# Altium footprint library КОТ-С.PcbLib: 65 footprints (part 3 of 5)
Each footprint in its own frame and in the unit in brackets; x right, y up, seen from the top. Pads: shape width x height; smd on the part's side, far side on the other; paste and mask are expansions set on the pad; w line width, h text height; cw(c..) or ccw(c..) is an arc to the next point about the centre after c.
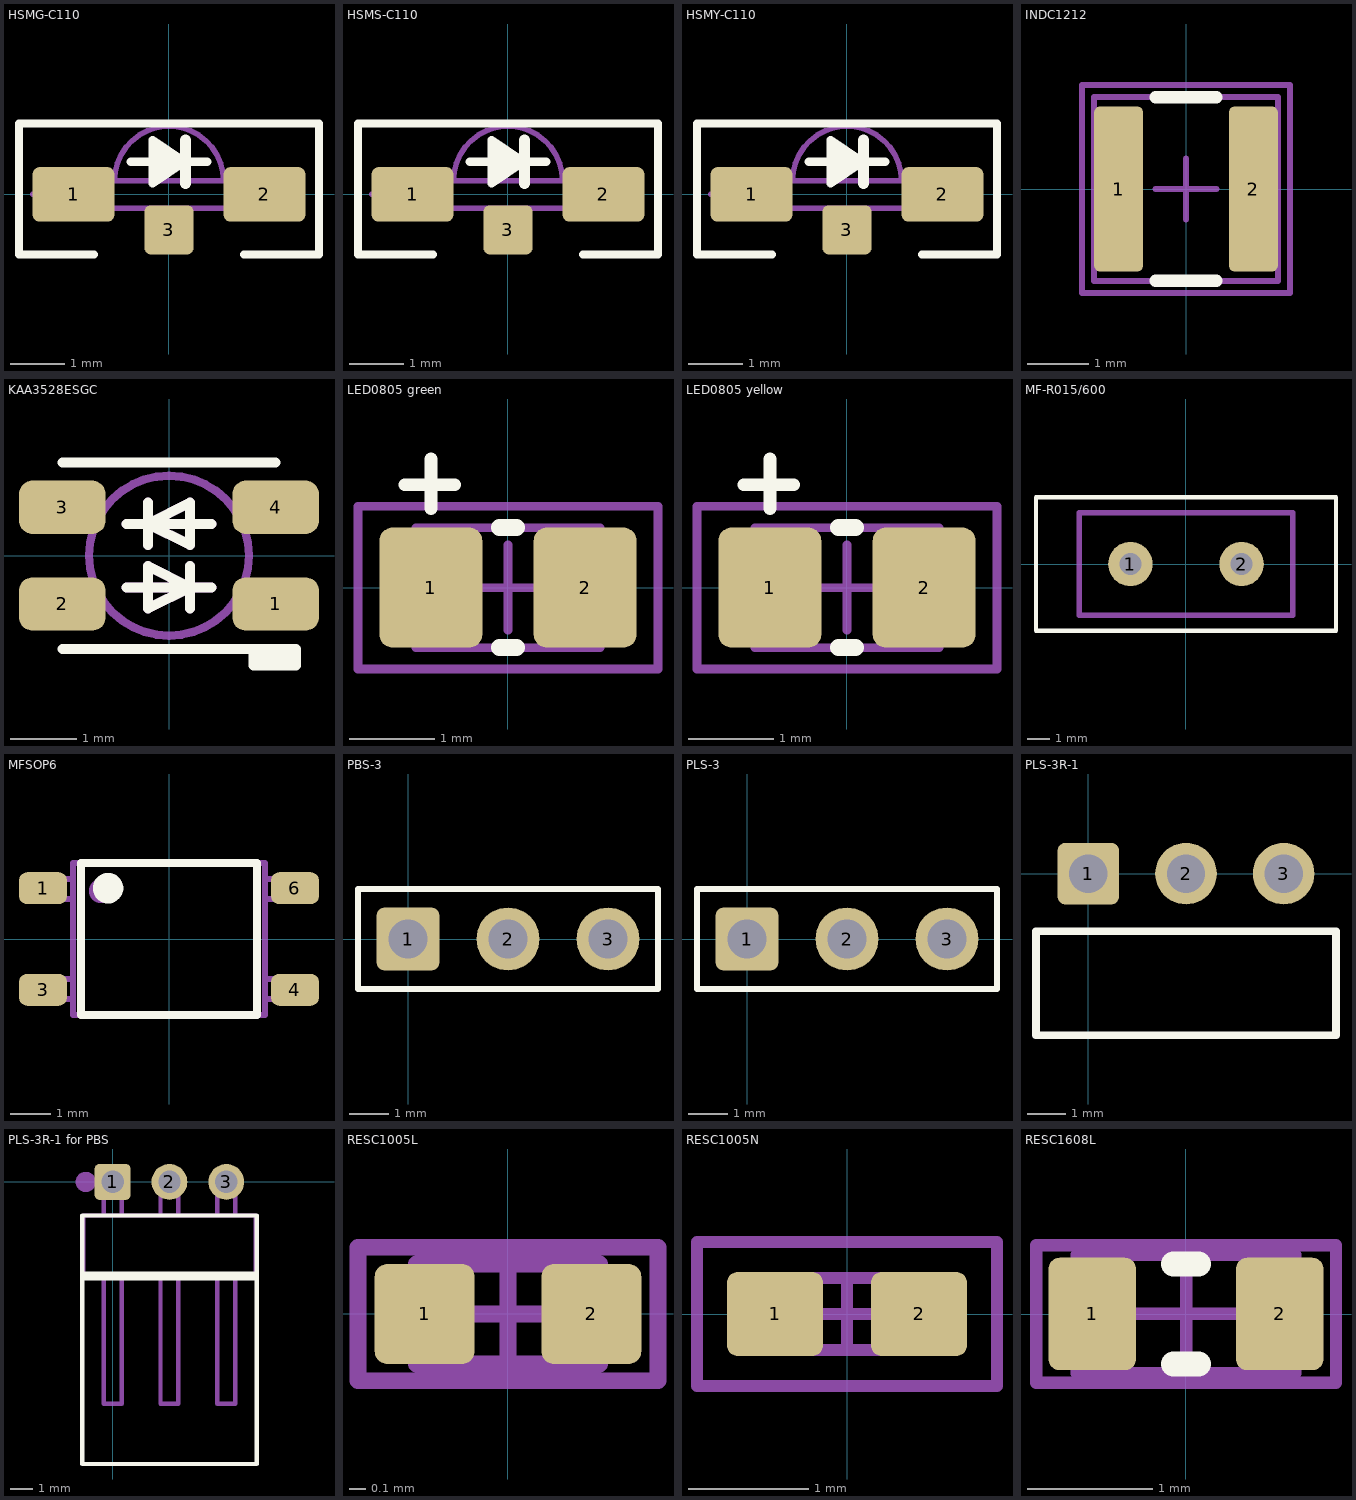
[diagram p2: the footprints below, top view; thin cyan lines are the x and y axes]

## HSMG-C110 [mm]
height 1
pads (3):
  rrect25% 1.5x1 smd paste-0.025: 1(-1.75,0) 2(1.75,0)
  rrect25% 0.9x0.9 smd paste-0.025 mask+0.07: 3(0,-0.65)
Top Overlay:
  region: -0.3,1 -0.3,0.2 0.3,0.6
  lines w0.15: -1.375,-1.1 -2.75,-1.1 -2.75,1.3 2.75,1.3 2.75,-1.1 1.375,-1.1 ; -0.7,0.6 0.7,0.6 ; -0.3,0.2 0.3,0.6 -0.3,1 -0.3,0.2
  lines w0.2: 0.3,0.2 0.3,1
Mechanical 5:
  lines w0.1: -2.5,0 -1.9,0 ; -2.2,-0.3 -2.2,0.3 ; -1,0.25 cw(c0,0.25) 1,0.25 ; -1.6,-0.25 1.6,-0.25 1.6,0.25 -1.6,0.25 -1.6,-0.25
  text ".Designator" at -1.6,-1 h1
3D body: height 1, standoff 0, extent -1.6,-0.25 1.6,0.25
3D body: height 0.8, standoff 0.2, extent -1,0.25 1,1.25

## HSMS-C110 [mm]
height 1
pads (3):
  rrect25% 1.5x1 smd paste-0.025: 1(-1.75,0) 2(1.75,0)
  rrect25% 0.9x0.9 smd paste-0.025 mask+0.07: 3(0,-0.65)
Top Overlay:
  region: -0.3,1 -0.3,0.2 0.3,0.6
  lines w0.15: -1.375,-1.1 -2.75,-1.1 -2.75,1.3 2.75,1.3 2.75,-1.1 1.375,-1.1 ; -0.7,0.6 0.7,0.6 ; -0.3,0.2 -0.3,1 0.3,0.6 -0.3,0.2
  lines w0.2: 0.3,0.2 0.3,1
Mechanical 1:
  lines w0.1: -1,0.25 cw(c0,0.25) 1,0.25 ; -1.6,-0.25 1.6,-0.25 1.6,0.25 -1.6,0.25 -1.6,-0.25
Mechanical 5:
  lines w0.1: -2.5,0 -1.9,0 ; -2.2,-0.3 -2.2,0.3 ; -1,0.25 cw(c0,0.25) 1,0.25 ; -1.6,-0.25 -1.6,0.25 1.6,0.25 1.6,-0.25 -1.6,-0.25
  text ".Designator" at -1.6,-1 h1
3D body: height 1, standoff 0, extent -1.6,-0.25 1.6,0.25
3D body: height 0.8, standoff 0.2, extent -1,0.25 1,1.25

## HSMY-C110 [mm]
height 1
pads (3):
  rrect25% 1.5x1 smd paste-0.025: 1(-1.75,0) 2(1.75,0)
  rrect25% 0.9x0.9 smd paste-0.025 mask+0.07: 3(0,-0.65)
Top Overlay:
  region: -0.3,1 -0.3,0.2 0.3,0.6
  lines w0.15: -1.375,-1.1 -2.75,-1.1 -2.75,1.3 2.75,1.3 2.75,-1.1 1.375,-1.1 ; -0.7,0.6 0.7,0.6 ; -0.3,0.2 0.3,0.6 -0.3,1 -0.3,0.2
  lines w0.2: 0.3,0.2 0.3,1
Mechanical 1:
  lines w0.1: -1,0.25 cw(c0,0.25) 1,0.25 ; -1.6,-0.25 1.6,-0.25 1.6,0.25 -1.6,0.25 -1.6,-0.25
Mechanical 5:
  lines w0.1: -2.5,0 -1.9,0 ; -2.2,-0.3 -2.2,0.3 ; -1,0.25 cw(c0,0.25) 1,0.25 ; -1.6,-0.25 1.6,-0.25 1.6,0.25 -1.6,0.25 -1.6,-0.25
  text ".Designator" at -1.6,-1 h1
3D body: height 1, standoff 0, extent -1.6,-0.25 1.6,0.25
3D body: height 0.8, standoff 0.2, extent -1,0.25 1,1.25

## INDC1212 [mm]
height 1.5
pads (2):
  rrect25% 0.8x2.7 smd paste-0.05 mask+0.075: 1(-1.1,0) 2(1.1,0)
Top Overlay:
  lines w0.2: -0.5,-1.5 0.5,-1.5 ; -0.5,1.5 0.5,1.5
Mechanical 13:
  lines w0.1: -1.5,-1.5 -1.5,1.5 1.5,1.5 1.5,-1.5 -1.5,-1.5
Mechanical 15:
  lines w0.1: -0.5,0 0.5,0 ; 0,-0.5 0,0.5 ; -1.7,-1.7 -1.7,1.7 1.7,1.7 1.7,-1.7 -1.7,-1.7
3D body "User Library-LQH32M-1.STEP": height 2.05, standoff 0.05, extent -1.592,-1.238 1.608,1.262

## KAA3528ESGC [mm]
pads (4):
  rrect50% 1.3x0.8 smd: 1(1.6,-0.725) 2(-1.6,-0.725) 3(-1.6,0.725) 4(1.6,0.725)
Top Overlay:
  rectangle: 1.27,-1.651 1.905,-1.4
  lines w0.15: -1.6,-1.4 1.905,-1.4 1.905,-1.651 1.27,-1.651 1.27,-1.4 ; -1.6,1.4 1.6,1.4 ; -0.635,-0.476 0.635,-0.476 ; -0.635,0.476 0.635,0.476 ; -0.318,0.159 -0.318,0.794 ; 0.318,-0.794 0.318,-0.159 ; -0.318,-0.794 -0.318,-0.159 0.318,-0.476 -0.318,-0.794 ; -0.318,0.476 0.318,0.794 0.318,0.159 -0.318,0.476
Mechanical 1:
  circle w0.125: c0,0 r1.2
  lines w0.15: -0.635,-0.476 0.635,-0.476 ; -0.635,0.476 0.635,0.476 ; -0.318,0.159 -0.318,0.794 ; 0.318,-0.794 0.318,-0.159 ; -0.318,-0.794 0.318,-0.476 -0.318,-0.159 -0.318,-0.794 ; -0.318,0.476 0.318,0.159 0.318,0.794 -0.318,0.476

## LED0805 green [mm]
pads (2):
  rrect25% 1.2x1.4 smd mask+0.075: 1(-0.9,0) 2(0.9,0)
Top Overlay:
  lines w0.15: -1.2,1.2 -0.624,1.2 ; -0.9,0.924 -0.9,1.5
  lines w0.2: -0.1,-0.7 0.1,-0.7 ; -0.1,0.7 0.1,0.7
Mechanical 13:
  lines w0.1: -1.075,-0.7 -1.075,0.7 1.075,0.7 1.075,-0.7 -1.075,-0.7
Mechanical 15:
  lines w0.1: -0.5,0 0.5,0 ; 0,-0.5 0,0.5 ; -1.75,-0.95 -1.75,0.95 1.75,0.95 1.75,-0.95 -1.75,-0.95
3D body "KP-2012SGC.stp": height 1.12, standoff 0.02, extent -1,-0.625 1,0.625

## LED0805 yellow [mm]
pads (2):
  rrect25% 1.2x1.4 smd mask+0.075: 1(-0.9,0) 2(0.9,0)
Top Overlay:
  lines w0.15: -1.2,1.2 -0.624,1.2 ; -0.9,0.924 -0.9,1.5
  lines w0.2: -0.1,-0.7 0.1,-0.7 ; -0.1,0.7 0.1,0.7
Mechanical 13:
  lines w0.1: -1.075,-0.7 1.075,-0.7 1.075,0.7 -1.075,0.7 -1.075,-0.7
Mechanical 15:
  lines w0.1: -0.5,0 0.5,0 ; 0,-0.5 0,0.5 ; -1.75,-0.95 1.75,-0.95 1.75,0.95 -1.75,0.95 -1.75,-0.95
3D body "KP-2012SYC.stp": height 1.12, standoff 0.02, extent -1,-0.625 1,0.625

## MF-R015/600 [mm]
pads (2):
  round 2 hole 1 mask+0.07: 1(-2.5,0) 2(2.5,0)
Top Overlay:
  lines w0.2: -6.75,-3 6.75,-3 6.75,3 -6.75,3 -6.75,-3
Mechanical 5:
  lines w0.15: -4.8,-2.3 -4.8,2.3 4.8,2.3 4.8,-2.3 -4.8,-2.3
  text ".Designator" at -1.6,-0.5 h2
Mechanical 13:
  lines w0.254: -4.8,-2.3 4.8,-2.3 4.8,2.3 -4.8,2.3 -4.8,-2.3
3D body "MF-R_600.stp": height 12.6, standoff -3.5, extent -6.75,-3 6.75,3

## MFSOP6 [mm]
pads (4):
  rrect50% 1.2x0.8 smd mask+0.075: 1(-3.15,1.27) 3(-3.15,-1.27) 4(3.15,-1.27) 6(3.15,1.27)
Top Overlay:
  circle w0.508: c-1.524,1.27 r0.127
  lines w0.2: -2.2,-1.9 -2.2,1.9 2.2,1.9 2.2,-1.9 -2.2,-1.9
Mechanical 5:
  circle w0.4: c-1.7,1.2 r0.1
  lines w0.15: -2.4,-1.5 -3.3,-1.5 -3.3,-1 -2.4,-1 ; -2.4,1 -3.3,1 -3.3,1.5 -2.4,1.5 ; 2.4,-1.5 3.3,-1.5 3.3,-1 2.4,-1 ; 2.4,1 3.3,1 3.3,1.5 2.4,1.5 ; -2.4,-1.9 2.4,-1.9 2.4,1.9 -2.4,1.9 -2.4,-1.9
  text ".Designator" at -1.45,-0.475 h1.6
3D body "TOSHIBA 11-4C1.stp": height 2.72, standoff 0.02, extent -3.7,-1.9 3.7,1.9

## PBS-3 [mm]
pads (3):
  rrect25% 1.6x1.6 hole 1: 1(0,0)
  round 1.6 hole 1: 2(2.54,0) 3(5.08,0)
Top Overlay:
  lines w0.15: -1.27,-1.27 -1.27,1.27 6.35,1.27 6.35,-1.27 -1.27,-1.27
3D body "PBS-3.stp": height 8.5, standoff -3.15, extent -1.28,-1.27 6.34,1.27

## PLS-3 [mm]
pads (3):
  rrect25% 1.6x1.6 hole 1: 1(0,0)
  round 1.6 hole 1: 2(2.54,0) 3(5.08,0)
Top Overlay:
  lines w0.15: -1.27,-1.27 6.35,-1.27 6.35,1.27 -1.27,1.27 -1.27,-1.27
3D body "PLS-3.STEP": height 8.8, standoff -3, extent -1.25,-1.27 6.37,1.27

## PLS-3R-1 [mm]
pads (3):
  rrect25% 1.6x1.6 hole 1: 1(0,0)
  round 1.6 hole 1: 2(2.54,0) 3(5.08,0)
Top Overlay:
  lines w0.2: -1.36,-4.2 -1.36,-1.5 6.44,-1.5 6.44,-4.2 -1.36,-4.2
3D body "PLS-3R.stp": height 2.44, standoff -3.05, extent -1.27,-9.92 6.35,0.3

## PLS-3R-1 for PBS [mm]
pads (3):
  rrect25% 1.6x1.6 hole 1: 1(0,0)
  round 1.6 hole 1: 2(2.54,0) 3(5.08,0)
Top Overlay:
  lines w0.2: -1.36,-12.6 -1.36,-4.5 -1.36,-1.5 6.44,-1.5 6.44,-4.2 6.44,-12.6 -1.36,-12.6
  lines w0.4: -1.26,-4.2 6.34,-4.2
Mechanical 5:
  circle w0.5: c-1.2,0 r0.2
  lines w0.2: -0.4,-4.2 -0.4,-9.9 0.4,-9.9 0.4,-4.2 ; -0.4,-1.5 -0.4,0.2 -0.2,0.4 0.2,0.4 0.4,0.2 0.4,-1.5 ; 2.14,-4.2 2.14,-9.9 2.94,-9.9 2.94,-4.2 ; 2.14,-1.5 2.14,0.2 2.34,0.4 2.74,0.4 2.94,0.2 2.94,-1.5 ; 4.68,-4.2 4.68,-9.9 5.48,-9.9 5.48,-4.2 ; 4.68,-1.5 4.68,0.2 4.88,0.4 5.28,0.4 5.48,0.2 5.48,-1.5 ; -1.3,-4.2 -1.3,-1.5 6.4,-1.5 6.4,-4.2 -1.3,-4.2
  text ".Designator" at 0.9,-3.4 h2
3D body "PLS-3R.stp": height 2.44, standoff -3.05, extent -1.27,-9.92 6.35,0.3

## RESC1005L [mm] "Chip Resistor, Body 1.1x0.5mm, IPC High Density"
height 0.4
pads (2):
  rrect25% 0.6x0.6 smd mask+0.075: 1(-0.5,0) 2(0.5,0)
Mechanical 13:
  lines w0.1: -0.55,-0.3 0.55,-0.3 0.55,0.3 -0.55,0.3 -0.55,-0.3
Mechanical 15:
  lines w0.1: -0.3,0 0.3,0 ; 0,-0.3 0,0.3 ; -0.9,-0.4 0.9,-0.4 0.9,0.4 -0.9,0.4 -0.9,-0.4
3D body "RESC1005.STEP": height 0.4, standoff 0, extent -0.5,-0.25 0.5,0.25

## RESC1005N [mm] "Chip Resistor, Body 1.1x0.5mm, IPC Medium Density"
height 0.4
pads (2):
  rrect25% 0.8x0.7 smd mask+0.075: 1(-0.6,0) 2(0.6,0)
Mechanical 13:
  lines w0.1: -0.55,-0.3 0.55,-0.3 0.55,0.3 -0.55,0.3 -0.55,-0.3
Mechanical 15:
  lines w0.1: -0.3,0 0.3,0 ; 0,-0.3 0,0.3 ; -1.25,-0.6 1.25,-0.6 1.25,0.6 -1.25,0.6 -1.25,-0.6
3D body "RESC1005.STEP": height 0.4, standoff 0, extent -0.5,-0.25 0.5,0.25

## RESC1608L [mm] "Chip Resistor, Body 1.6x0.8mm, IPC High Density"
height 0.6
pads (2):
  rrect25% 0.7x0.9 smd mask+0.075: 1(-0.75,0) 2(0.75,0)
Top Overlay:
  lines w0.2: -0.1,-0.4 0.1,-0.4 ; -0.1,0.4 0.1,0.4
Mechanical 5:
  lines w0.1: -0.875,-0.475 -0.875,0.475 0.875,0.475 0.875,-0.475 -0.875,-0.475
  text ".Designator" at -0.725,-0.175 h0.8
Mechanical 13:
  lines w0.1: -0.85,-0.475 -0.85,0.475 0.85,0.475 0.85,-0.475 -0.85,-0.475
Mechanical 15:
  lines w0.1: -0.475,0 0.475,0 ; 0,-0.475 0,0.475 ; -1.2,-0.55 -1.2,0.55 1.2,0.55 1.2,-0.55 -1.2,-0.55
3D body "RESC1608.STEP": height 0.5, standoff 0, extent -0.8,-0.4 0.8,0.4